# Altium footprint library can_7.5_0.PcbLib: 1 footprints
Each footprint in its own frame and in the unit in brackets; x right, y up, seen from the top. Pads: shape width x height; smd on the part's side, far side on the other; paste and mask are expansions set on the pad; w line width, h text height; cw(c..) or ccw(c..) is an arc to the next point about the centre after c.
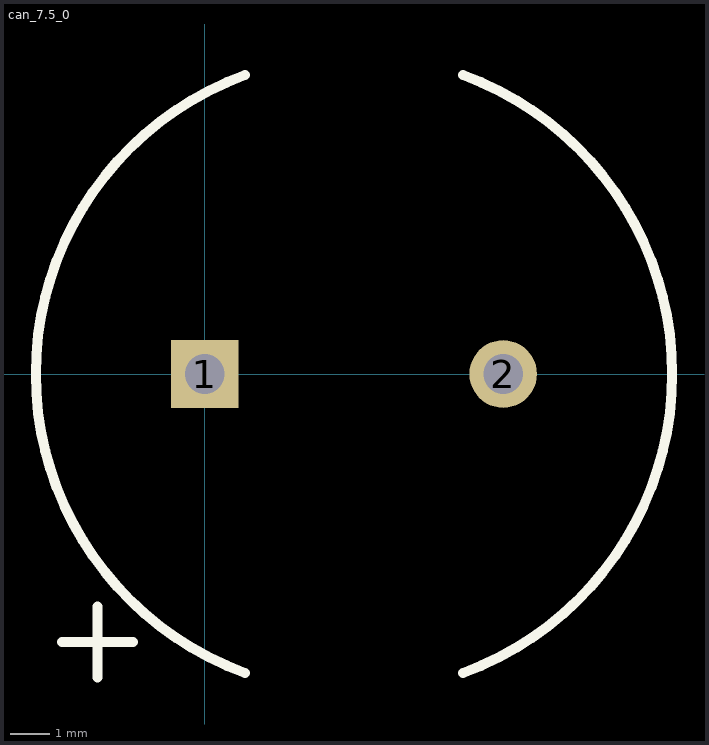
[diagram p0: the footprint, top view; thin cyan lines are the x and y axes]

## can_7.5_0 [mm] "2 Leaded Al Cap, 7.5mm spacing, 16mm diameter"
height 20
pads (2):
  rect 1.7x1.7 hole 1: 1(0,0)
  round 1.7 hole 1: 2(7.5,0)
Top Overlay:
  lines w0.254: -3.589,-6.742 -1.811,-6.742 ; -2.7,-7.631 -2.7,-5.853 ; 1.014,-7.518 cw(c3.75,0) 1.014,7.518 ; 6.486,-7.518 ccw(c3.75,0) 6.486,7.518
3D body: height 25, standoff 0, extent -4.25,-8 11.75,8